# Altium footprint library MasterLib.PcbLib: 80 footprints (part 2 of 5)
Each footprint in its own frame and in the unit in brackets; x right, y up, seen from the top. Pads: shape width x height; smd on the part's side, far side on the other; paste and mask are expansions set on the pad; w line width, h text height; cw(c..) or ccw(c..) is an arc to the next point about the centre after c.
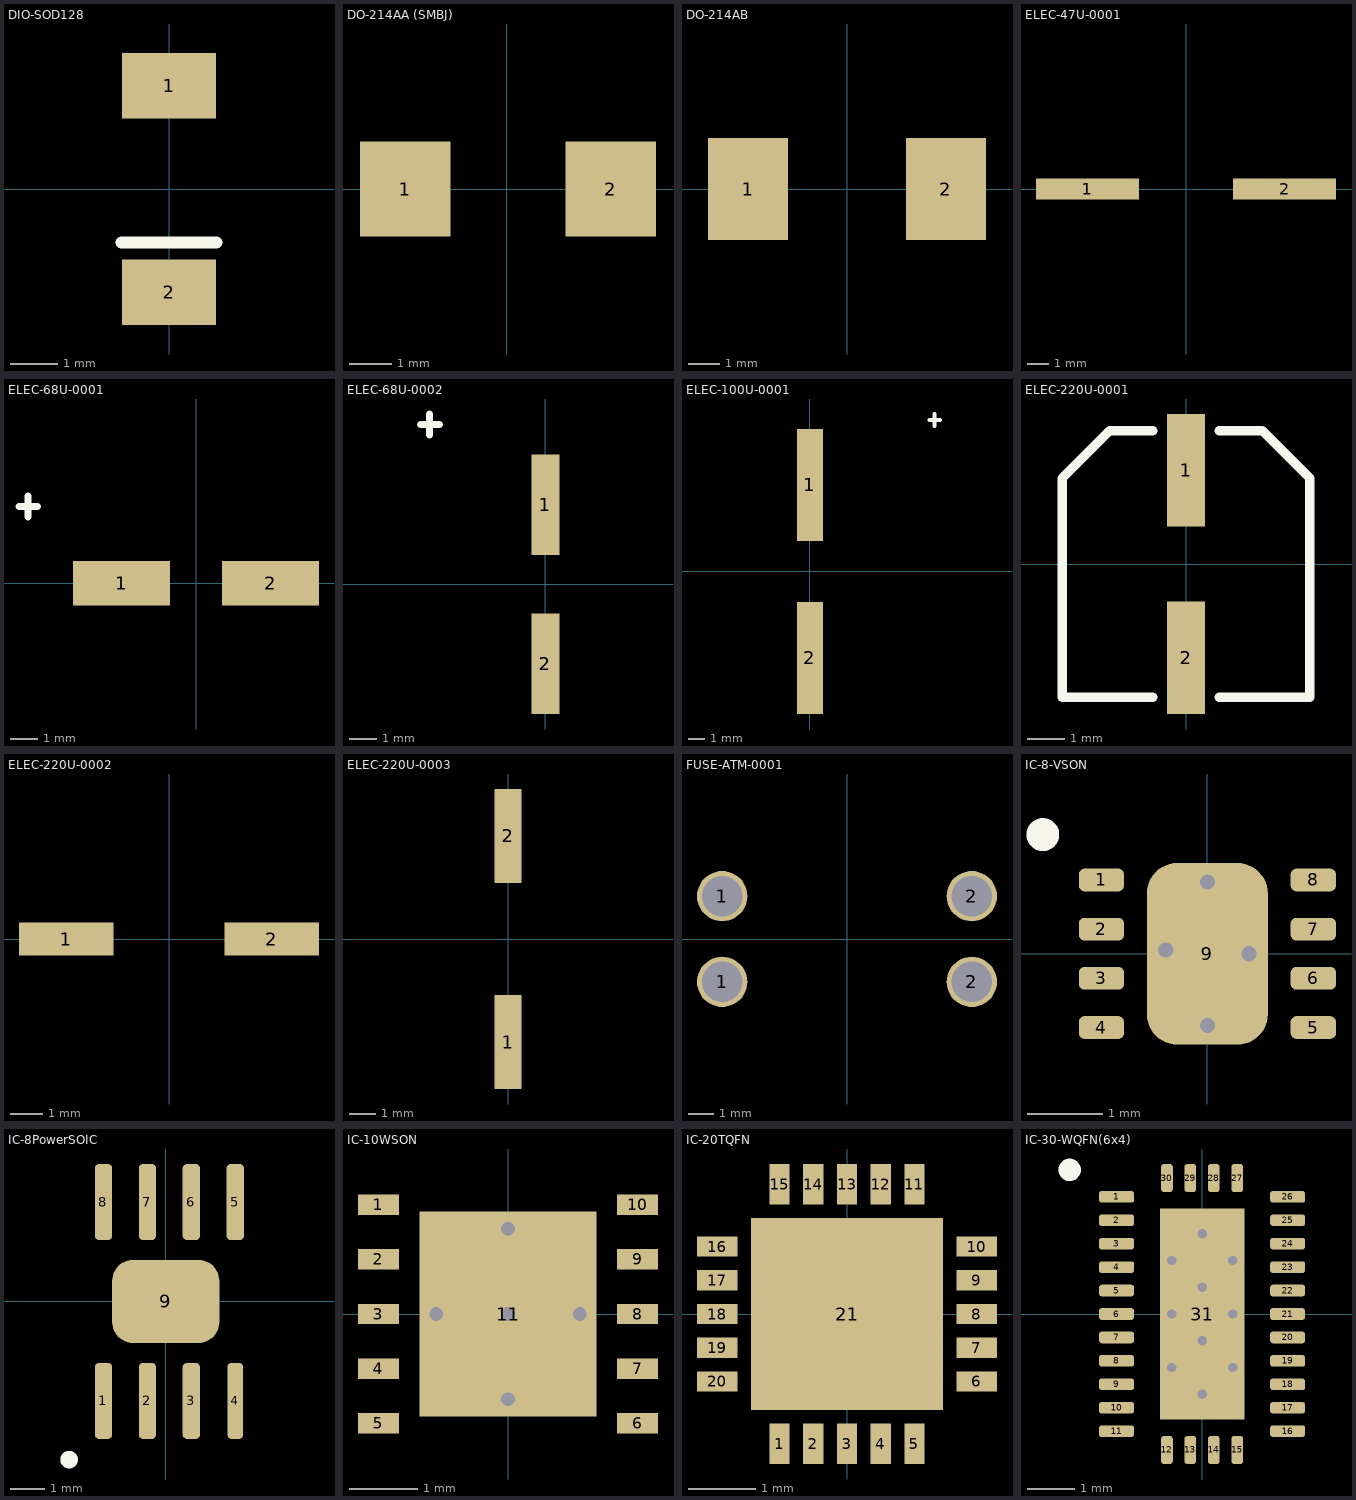
[diagram p1: the footprints below, top view; thin cyan lines are the x and y axes]

## DIO-SOD128 [mm]
pads (2):
  rect 2x1.4 smd: 1(0,2.2) 2(0,-2.2)
Top Overlay:
  lines w0.254: -1.016,-1.143 1.016,-1.143
3D body "RB081LAM-20TR--3DModel-STEP-56544.STEP": height 1.05, standoff 0, extent -1.25,-2.35 1.25,2.35

## DO-214AA (SMBJ) [mm]
pads (2):
  rect 2.16x2.26 smd: 1(-2.416,0) 2(2.484,0)
3D body "User Library-DIOM5539X24.STEP": height 2.45, standoff 0.03, extent -2.716,-1.95 2.784,1.95

## DO-214AB [mm]
pads (2):
  rect 2.5x3.2 smd: 1(-3.105,0) 2(3.105,0)
3D body "User Library-DO-214AB(SMC).STEP": height 2.67, standoff 0.03, extent -4.064,-3.15 4.064,3.15

## ELEC-47U-0001 [mm]
pads (2):
  rect 4.9x1 smd: 1(-4.7,0) 2(4.7,0)
3D body "EDH476M100A9PAA.step": height 10.21, standoff -0.3, extent -6.1,-5.25 6.1,5.25

## ELEC-68U-0001 [mil]
pads (2):
  rect 138x63 smd: 1(-106,0) 2(106,0)
Top Overlay:
  lines w9.84: -239.17,94.49 -239.17,124.02
  lines w10: -251.97,109.25 -239.17,109.25 -225.39,109.25
3D body "PCAP_6_3x7_7-ELECT_NCA.step": height 317.09, standoff 0, extent -145.51,-134.02 145.51,134.02

## ELEC-68U-0002 [mm]
pads (2):
  rect 1x3.6 smd: 1(0,2.85) 2(0,-2.85)
Top Overlay:
  lines w0.25: -4.15,5.35 -4.15,6.1
  lines w0.254: -4.475,5.725 -4.15,5.725 -3.8,5.725
3D body "U2-P_NCH.step": height 10.06, standoff 0, extent -4.153,-4.47 4.153,4.42

## ELEC-100U-0001 [mm]
pads (2):
  rect 1.6x7 smd: 1(0,5.4) 2(0,-5.4)
Top Overlay:
  lines w0.25: 7.775,9.075 7.775,9.825
  lines w0.254: 7.45,9.45 7.775,9.45 8.125,9.45
3D body "CAP_S-V_12P5X16_RUB.step": height 16.56, standoff 0, extent -6.604,-7.15 6.604,7.15

## ELEC-220U-0001 [mm]
pads (2):
  rect 1x3 smd: 1(0,2.5) 2(0,-2.5)
Top Overlay:
  lines w0.254: -0.889,-3.556 -3.302,-3.556 -3.302,2.286 -2.032,3.556 -0.889,3.556 ; 0.889,-3.556 3.302,-3.556 3.302,2.286 2.032,3.556 0.889,3.556
3D body "UUD1C221MCL1GS.STEP": height 7.95, standoff -0.05, extent -3.3,-3.5 3.3,3.5

## ELEC-220U-0002 [mm]
pads (2):
  rect 2.9x1 smd: 1(-3.15,0) 2(3.15,0)
3D body "CAP_J-V_8X10P5_RUB.step": height 10.54, standoff 0, extent -4.445,-4.254 4.445,4.254

## ELEC-220U-0003 [mm]
pads (2):
  rect 1x3.5 smd: 1(0,-3.85) 2(0,3.85)
3D body "CAP_J-V_10X10P5_RUB.step": height 10.54, standoff 0, extent -5.245,-5.448 5.245,5.448

## FUSE-ATM-0001 [mm]
pads (4):
  round 2 hole 1.6: 1(-4.95,-1.7) 1(-4.95,1.7) 2(4.95,-1.7) 2(4.95,1.7)
3D body "3568.STEP": height 7.37, standoff -2.79, extent -8.001,-3.365 8.001,3.365

## IC-8-VSON [mm]
pads (9):
  rrect50% 0.6x0.3 smd mask+0.07: 1(-1.4,0.975) 2(-1.4,0.325) 3(-1.4,-0.325) 4(-1.4,-0.975) 5(1.4,-0.975) 6(1.4,-0.325) 7(1.4,0.325) 8(1.4,0.975)
  rrect50% 1.6x2.4 smd: 9(0,0)
via 0.55,0 diameter 0.3 hole 0.2
via -0.55,0.05 diameter 0.3 hole 0.2
via 0,-0.95 diameter 0.3 hole 0.2
via 0,0.95 diameter 0.3 hole 0.2
Top Overlay:
  circle w0.254: c-2.175,1.575 r0.09
3D body "TCAN1042HGDRBTQ1.STEP": height 1, standoff 0, extent -1.5,-1.5 1.5,1.5

## IC-8PowerSOIC [mm]
pads (9):
  rrect50% 0.5x2.2 smd mask+0.07: 1(-1.8,-2.875) 2(-0.53,-2.875) 3(0.74,-2.875) 5(2.01,2.875) 6(0.74,2.875) 7(-0.53,2.875) 8(-1.8,2.875)
  rrect50% 0.45x2.2 smd mask+0.07: 4(2.01,-2.875)
  rrect50% 3.1x2.4 smd: 9(0,0)
Top Overlay:
  circle w0.254: c-2.794,-4.572 r0.127
3D body "LMR16030SDDA.STEP": height 1.7, standoff 0, extent -2.35,-3 2.55,3

## IC-10WSON [mm]
pads (11):
  rect 0.6x0.3 smd: 1(-1.9,1.6) 2(-1.9,0.8) 3(-1.9,0) 4(-1.9,-0.8) 5(-1.9,-1.6) 6(1.9,-1.6) 7(1.9,-0.8) 8(1.9,0) 9(1.9,0.8) 10(1.9,1.6)
  rect 2.6x3 smd: 11(0,0)
via -1.05,0 diameter 0.45 hole 0.2
via 0,-1.25 diameter 0.45 hole 0.2
via 0,1.25 diameter 0.45 hole 0.2
via 1.05,0 diameter 0.45 hole 0.2
via 0,0 diameter 0.45 hole 0.2
3D body "LMR14050SQDPRRQ1--3DModel-STEP-56544.STEP": height 0.8, standoff 0, extent -2,-2 2,2

## IC-20TQFN [mm]
pads (21):
  rect 0.3x0.6 smd: 1(-1,-1.925) 2(-0.5,-1.925) 3(0,-1.925) 4(0.5,-1.925) 5(1,-1.925) 11(1,1.925) 12(0.5,1.925) 13(0,1.925) 14(-0.5,1.925) 15(-1,1.925)
  rect 0.6x0.3 smd: 6(1.925,-1) 7(1.925,-0.5) 8(1.925,0) 9(1.925,0.5) 10(1.925,1) 16(-1.925,1) 17(-1.925,0.5) 18(-1.925,0) 19(-1.925,-0.5) 20(-1.925,-1)
  rect 2.85x2.85 smd: 21(0,0)
3D body "MAX16004BTP+T.STEP": height 0.8, standoff 0, extent -2,-2 2,2

## IC-30-WQFN(6x4) [mm] "30 pin WQFN with exposed pad"
pads (31):
  rrect50% 0.75x0.25 smd mask+0.07: 1(-1.825,2.5) 2(-1.825,2) 3(-1.825,1.5) 4(-1.825,1) 5(-1.825,0.5) 6(-1.825,0) 7(-1.825,-0.5) 8(-1.825,-1) 9(-1.825,-1.5) 10(-1.825,-2) 11(-1.825,-2.5) 16(1.825,-2.5) 17(1.825,-2) 18(1.825,-1.5) 19(1.825,-1) 20(1.825,-0.5) 21(1.825,0) 22(1.825,0.5) 23(1.825,1) 24(1.825,1.5) 25(1.825,2) 26(1.825,2.5)
  rrect50% 0.25x0.6 smd mask+0.07: 12(-0.75,-2.9) 13(-0.25,-2.9) 14(0.25,-2.9) 15(0.75,-2.9) 27(0.75,2.9) 28(0.25,2.9) 29(-0.25,2.9) 30(-0.75,2.9)
  rect 1.8x4.5 smd: 31(0,0)
via 0,-1.71 diameter 0.3 hole 0.2
via 0,1.71 diameter 0.3 hole 0.2
via -0.65,-1.14 diameter 0.3 hole 0.2
via -0.65,1.14 diameter 0.3 hole 0.2
via 0.65,-1.14 diameter 0.3 hole 0.2
via 0.65,1.14 diameter 0.3 hole 0.2
via 0,-0.57 diameter 0.3 hole 0.2
via 0,0.57 diameter 0.3 hole 0.2
via 0.65,0 diameter 0.3 hole 0.2
via -0.65,0 diameter 0.3 hole 0.2
Top Overlay:
  circle w0.254: c-2.825,3.075 r0.112
3D body "RNP0030B.stp": height 0.8, standoff 0, extent -2,-3 2,3